# Altium footprint library AudioJac_3F07.PcbLib: 1 footprints
Each footprint in its own frame and in the unit in brackets; x right, y up, seen from the top. Pads: shape width x height; smd on the part's side, far side on the other; paste and mask are expansions set on the pad; w line width, h text height; cw(c..) or ccw(c..) is an arc to the next point about the centre after c.
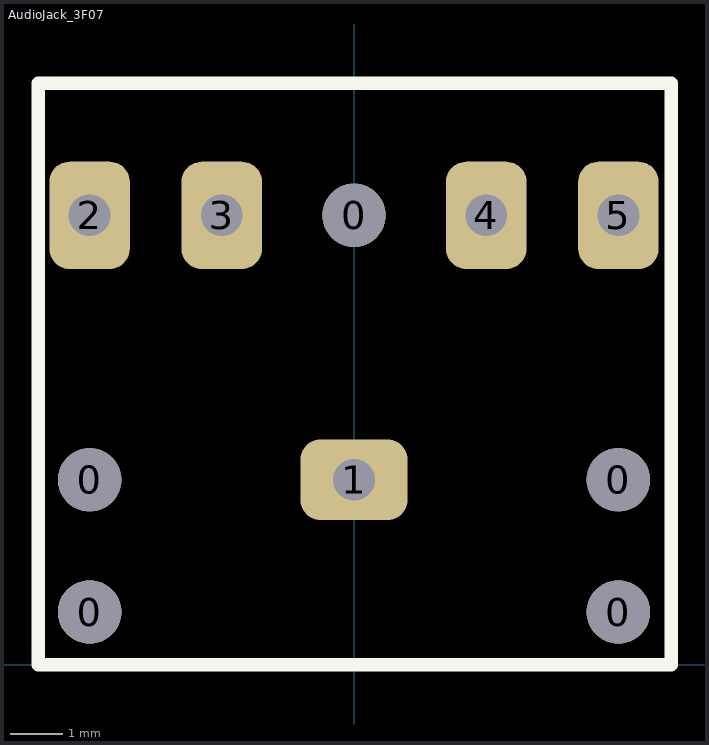
[diagram p0: the footprint, top view; thin cyan lines are the x and y axes]

## AudioJack_3F07 [mm]
pads (10):
  round 1.2 hole 1.2: 0(-5,1) 0(-5,3.5) 0(0,8.5) 0(5,1) 0(5,3.5)
  rrect50% 2.032x1.524 hole 0.787 square: 1(0,3.5)
  rrect50% 1.524x2.032 hole 0.787 square: 2(-5,8.5) 3(-2.5,8.5) 4(2.5,8.5) 5(5,8.5)
Top Overlay:
  lines w0.254: -5.969,0 6,0 6,11 -5.969,11 -5.969,0